# EAGLE library part TPS26600 (library HyTechDevices-ltc4421 components)
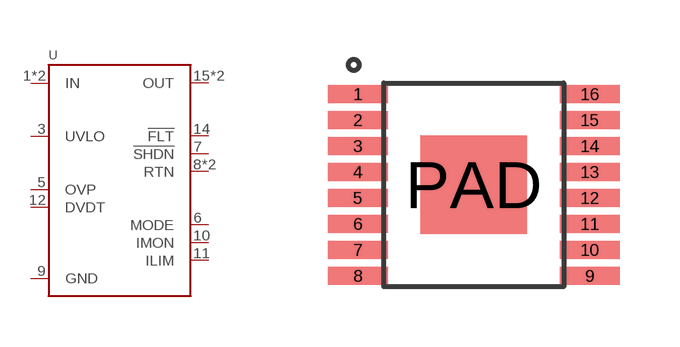
[diagram p26: symbol with the pads of HTSSOP-16; footprint HTSSOP-16]

Designator prefix -

## TPS26600  [HTSSOP-16]
1  IN  in
2  IN  in
3  UVLO  in
5  OVP  in
6  MODE  in
7  !SHDN!  in
8  RTN  pas
9  GND  pwr
10  IMON
11  ILIM  in
12  DVDT  in
14  !FLT!  out
15  OUT  pwr
16  OUT  pwr
PAD  RTN  pas

## Footprint HTSSOP-16 (pad centres in mm)
HTSSOP-16 Datasheet <https://www.ti.com/lit/ds/symlink/tps2660.pdf> Note: Based on page 51 and 52.
smd 1.5 x 0.45: 1 -2.9,2.275; 2 -2.9,1.625; 3 -2.9,0.975; 4 -2.9,0.325; 5 -2.9,-0.325; 6 -2.9,-0.975; 7 -2.9,-1.625; 8 -2.9,-2.275; 9 2.9,-2.275; 10 2.9,-1.625; 11 2.9,-0.975; 12 2.9,-0.325; 13 2.9,0.325; 14 2.9,0.975; 15 2.9,1.625; 16 2.9,2.275
smd 2.66 x 2.46: PAD 0,0